# Altium footprint library Graviton.PcbLib: 10 footprints
Each footprint in its own frame and in the unit in brackets; x right, y up, seen from the top. Pads: shape width x height; smd on the part's side, far side on the other; paste and mask are expansions set on the pad; w line width, h text height; cw(c..) or ccw(c..) is an arc to the next point about the centre after c.
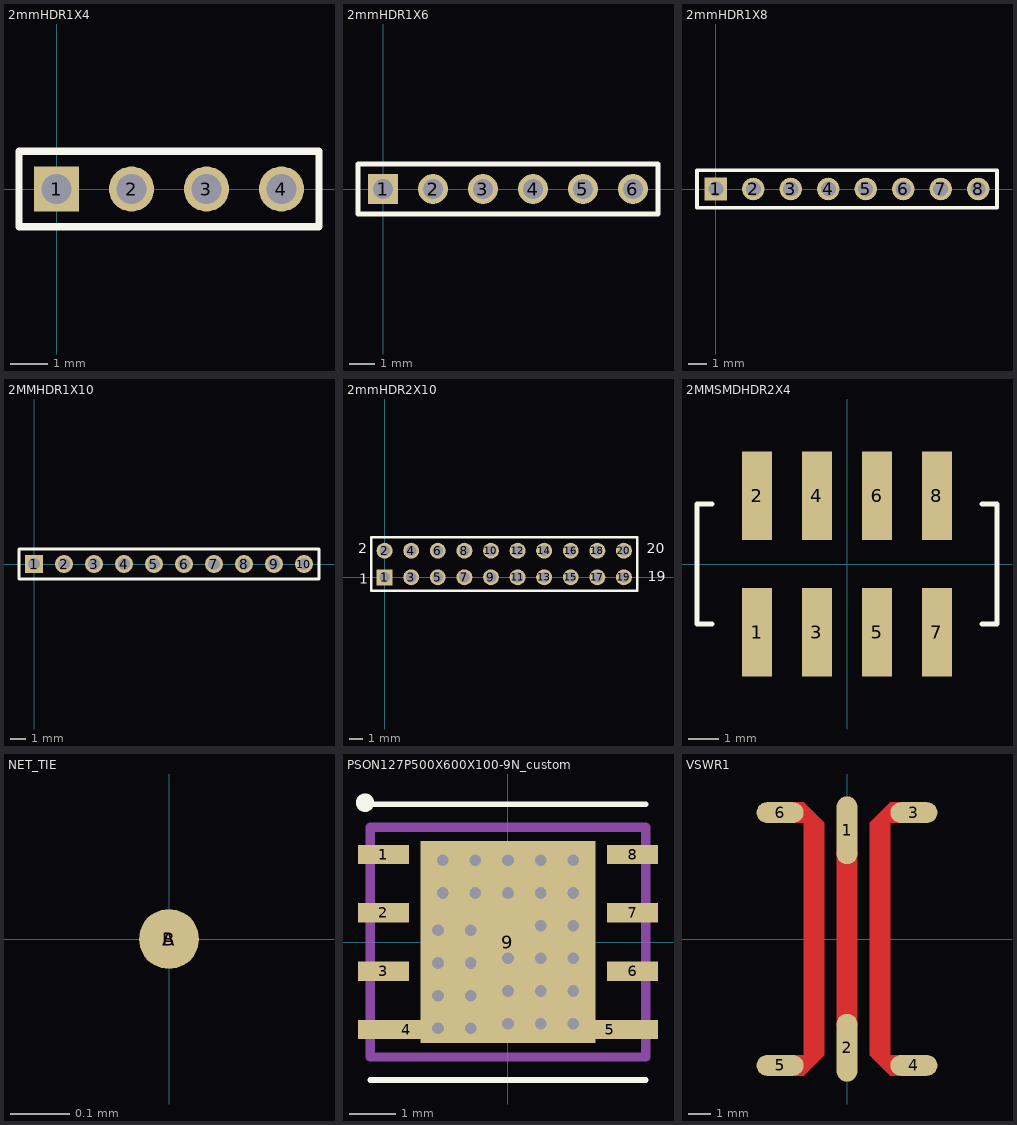
[diagram p0: the footprints below, top view; thin cyan lines are the x and y axes]

## 2mmHDR1X4 [mm] "Connector; Header; 4 Position"
pads (4):
  rect 1.2x1.2 hole 0.8: 1(0,0)
  round 1.2 hole 0.8: 2(2,0) 3(4,0) 4(6,0)
Top Overlay:
  lines w0.2: -1,-1 7,-1 7,1 -1,1 -1,-1

## 2mmHDR1X6 [mm] "Connector; Header; 6 Position"
pads (6):
  rect 1.2x1.2 hole 0.8: 1(0,0)
  round 1.2 hole 0.8: 2(2,0) 3(4,0) 4(6,0) 5(8,0) 6(10,0)
Top Overlay:
  lines w0.2: -1,-1 -1,1 11,1 11,-1 -1,-1

## 2mmHDR1X8 [mm] "Connector; Header; 8 Position"
pads (8):
  rect 1.2x1.2 hole 0.8: 1(0,0)
  round 1.2 hole 0.8: 2(2,0) 3(4,0) 4(6,0) 5(8,0) 6(10,0) 7(12,0) 8(14,0)
Top Overlay:
  lines w0.2: -1,-1 15,-1 15,1 -1,1 -1,-1

## 2MMHDR1X10 [mm] "Connector; Header; 10 Position"
pads (10):
  rect 1.2x1.2 hole 0.8: 1(0,0)
  round 1.2 hole 0.8: 2(2,0) 3(4,0) 4(6,0) 5(8,0) 6(10,0) 7(12,0) 8(14,0) 9(16,0) 10(18,0)
Top Overlay:
  lines w0.2: -1,-1 -1,1 0.905,1 19,1 19,-1 -1,-1

## 2mmHDR2X10 [mm] "Connector; Header; 10x2 Position"
pads (20):
  rect 1.2x1.2 hole 0.8: 1(0,0)
  round 1.2 hole 0.8: 2(0,2) 3(2,0) 4(2,2) 5(4,0) 6(4,2) 7(6,0) 8(6,2) 9(8,0) 10(8,2) 11(10,0) 12(10,2) 13(12,0) 14(12,2) 15(14,0) 16(14,2) 17(16,0) 18(16,2) 19(18,0) 20(18,2)
Top Overlay:
  lines w0.2: -1,-1 -1,3 19,3 19,-1 -1,-1
  text "20" at 19.7,1.8 h0.76
  text "19" at 19.8,-0.3 h0.76
  text "1" at -1.9,-0.5 h0.76
  text "2" at -2,1.8 h0.76

## 2MMSMDHDR2X4 [mm] "2mm Pitch SMD Header, 2x4 pins, no guide post"
height 5.8
pads (8):
  rect 1x2.95 smd: 1(-3,-2.275) 2(-3,2.275) 3(-1,-2.275) 4(-1,2.275) 5(1,-2.275) 6(1,2.275) 7(3,-2.275) 8(3,2.275)
Top Overlay:
  lines w0.152: -4.5,-2 -5,-2 -5,2 -4.5,2 ; 4.5,-2 5,-2 5,2 4.5,2

## NET_TIE [mil]
pads (2):
  round 4 smd paste-2 mask+0: A(0,0) B(0,0)

## PCBComponent_1 [mm]

## PSON127P500X600X100-9N_custom [mm] "GaN Wideband Power Amplifier"
height 0.9
pads (9):
  rect 1.11x0.42 smd mask+0.05: 1(-2.71,1.905) 2(-2.71,0.635) 3(-2.71,-0.635) 6(2.71,-0.635) 7(2.71,0.635) 8(2.71,1.905)
  rect 2.11x0.42 smd mask+0.05: 4(-2.21,-1.905) 5(2.21,-1.905)
  rect 3.8x4.4 smd mask+0.05: 9(0,0)
via -0.811,-0.456 diameter 0.483 hole 0.254
via 0,-0.356 diameter 0.483 hole 0.254
via -0.811,0.256 diameter 0.483 hole 0.254
via -0.711,1.067 diameter 0.483 hole 0.254
via 0,1.067 diameter 0.483 hole 0.254
via -0.711,1.778 diameter 0.483 hole 0.254
via -1.422,1.778 diameter 0.483 hole 0.254
via -1.422,1.067 diameter 0.483 hole 0.254
via -1.522,0.256 diameter 0.483 hole 0.254
via -1.522,-0.456 diameter 0.483 hole 0.254
via -1.522,-1.167 diameter 0.483 hole 0.254
via -1.522,-1.878 diameter 0.483 hole 0.254
via -0.811,-1.878 diameter 0.483 hole 0.254
via -0.811,-1.167 diameter 0.483 hole 0.254
via 1.422,1.778 diameter 0.483 hole 0.254
via 1.422,1.067 diameter 0.483 hole 0.254
via 1.422,0.356 diameter 0.483 hole 0.254
via 1.422,-0.356 diameter 0.483 hole 0.254
via 1.422,-1.067 diameter 0.483 hole 0.254
via 0.711,1.778 diameter 0.483 hole 0.254
via 0.711,1.067 diameter 0.483 hole 0.254
via 0.711,0.356 diameter 0.483 hole 0.254
via 0.711,-0.356 diameter 0.483 hole 0.254
via 0.711,-1.067 diameter 0.483 hole 0.254
via 1.422,-1.778 diameter 0.483 hole 0.254
via 0.711,-1.778 diameter 0.483 hole 0.254
via 0,-1.778 diameter 0.483 hole 0.254
via 0,-1.067 diameter 0.483 hole 0.254
via 0,1.778 diameter 0.483 hole 0.254
Top Overlay:
  circle w0.2: c-3.111,3.033 r0.1
  lines w0.127: -3,-3 3,-3 ; -3,3 3,3
Top Paste:
  region: -1.502,0.198 -1.502,1.804 -0.204,1.804 -0.204,0.198
  region: -1.504,-1.804 -1.504,-0.2 -0.2,-0.2 -0.2,-1.804
  region: 1.5,1.8 1.5,0.2 0.2,0.2 0.2,1.8
  region: 1.502,-0.202 1.502,-1.802 0.198,-1.802 0.198,-0.202
Mechanical 15:
  lines w0.2: -1,0 1,0 ; 0,-1 0,1 ; -3,-2.5 -3,2.5 3,2.5 3,-2.5 -3,-2.5
3D body: height 0.9, standoff 0, extent -2.999,-2.499 2.999,2.499

## VSWR1 [mil] "RF coupler"
pads (6):
  oval 36x118 smd paste-18 mask-18: 1(0,189) 2(0,-189)
  oval 82x36 smd paste-18 mask-18: 3(116.35,219.76) 4(116.35,-219.76) 5(-116.35,-219.76) 6(-116.35,219.76)
Top Layer:
  region: -75.35,237.76 -93.35,237.76 -93.35,201.76 -75.35,201.76
  region: -75.35,-201.76 -93.35,-201.76 -93.35,-237.76 -75.35,-237.76
  rectangle: 75.35,-237.76 93.35,-201.76
  rectangle: 75.35,201.76 93.35,237.76
  region: -39.37,201.77 -75.35,201.77 -75.35,-201.77 -39.37,-201.77
  rectangle: 39.37,-201.77 75.35,201.77
  region: -39.37,201.77 -75.35,237.76 -75.35,201.77
  region: -39.37,-201.77 -75.35,-237.76 -75.35,-201.77
  region: 39.37,-201.77 75.35,-237.76 75.35,-201.77
  region: 39.37,201.77 75.35,237.76 75.35,201.77
  lines w36: 0,-148 0,148